# Altium footprint library DMC2400UV-7.PcbLib: 3 footprints
Each footprint in its own frame and in the unit in brackets; x right, y up, seen from the top. Pads: shape width x height; smd on the part's side, far side on the other; paste and mask are expansions set on the pad; w line width, h text height; cw(c..) or ccw(c..) is an arc to the next point about the centre after c.
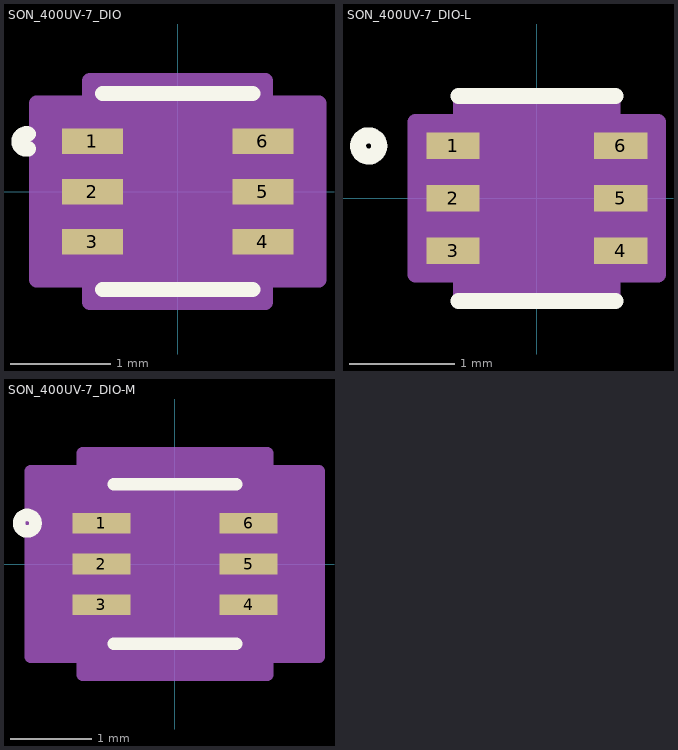
[diagram p0: the footprints below, top view; thin cyan lines are the x and y axes]

## SON_400UV-7_DIO [mil]
pads (6):
  rect 24x10 smd paste+0 mask+0: 1(-33.5,19.68) 2(-33.5,0) 3(-33.5,-19.68) 4(33.5,-19.68) 5(33.5,0) 6(33.5,19.68)
Top Overlay:
  lines w6: -58.6,16.78 cw(c-59.34,19.68) -58.6,22.59 ; -29.5,-38.5 29.5,-38.5 ; -29.5,38.5 29.5,38.5
  text ".Designator" at -137.5,-25 h50
Mechanical 13:
  lines w1: -12,33.5 ccw(c0,33.5) 12,33.5 ; -24.5,-33.5 -24.5,33.5 24.5,33.5 24.5,-33.5 -24.5,-33.5
Mechanical 15:
  region: -34.5,-34.69 -55.5,-34.69 -55.5,34.69 -34.5,34.69 -34.5,43.5 34.5,43.5 34.5,34.69 55.5,34.69 55.5,-34.69 34.5,-34.69 34.5,-43.5 -34.5,-43.5
  lines w6: -55.5,-34.69 -34.5,-34.69 -34.5,-43.5 34.5,-43.5 34.5,-34.69 55.5,-34.69 55.5,34.69 34.5,34.69 34.5,43.5 -34.5,43.5 -34.5,34.69 -55.5,34.69 -55.5,-34.69
3D body "SON_400UV-7_DIO.step": height 24.09, standoff 0, extent -33.5,-33.5 33.5,33.5

## SON_400UV-7_DIO-L [mil]
pads (6):
  rect 20x10 smd paste+0 mask+0: 1(-31.5,19.68) 2(-31.5,0) 3(-31.5,-19.68) 4(31.5,-19.68) 5(31.5,0) 6(31.5,19.68)
Top Overlay:
  circle w6: c-63.19,19.68 r4
  lines w6: -29.5,-38.5 29.5,-38.5 ; -29.5,38.5 29.5,38.5
  text ".Designator" at -137.5,-25 h50
Mechanical 13:
  circle w1: c-21.5,19.68 r3
  lines w1: -12,33.5 ccw(c0,33.5) 12,33.5 ; -24.5,-33.5 24.5,-33.5 24.5,33.5 -24.5,33.5 -24.5,-33.5
  text ".Designator" at -137.5,-25 h50
Mechanical 15:
  region: -28.5,-28.68 -45.5,-28.68 -45.5,28.68 -28.5,28.68 -28.5,37.5 28.5,37.5 28.5,28.68 45.5,28.68 45.5,-28.68 28.5,-28.68 28.5,-37.5 -28.5,-37.5
  lines w6: -45.5,-28.68 -45.5,28.68 -28.5,28.68 -28.5,37.5 28.5,37.5 28.5,28.68 45.5,28.68 45.5,-28.68 28.5,-28.68 28.5,-37.5 -28.5,-37.5 -28.5,-28.68 -45.5,-28.68
3D body "SON_400UV-7_DIO.step": height 24.09, standoff 0, extent -33.5,-33.5 33.5,33.5

## SON_400UV-7_DIO-M [mil]
pads (6):
  rect 28x10 smd paste+0 mask+0: 1(-35.5,19.68) 2(-35.5,0) 3(-35.5,-19.68) 4(35.5,-19.68) 5(35.5,0) 6(35.5,19.68)
Top Overlay:
  circle w6: c-71.19,19.68 r4
  lines w6: -29.5,-38.5 29.5,-38.5 ; -29.5,38.5 29.5,38.5
  text ".Designator" at -137.5,-25 h50
Mechanical 13:
  circle w1: c-21.5,19.68 r3
  lines w1: -12,33.5 ccw(c0,33.5) 12,33.5 ; -24.5,-33.5 24.5,-33.5 24.5,33.5 -24.5,33.5 -24.5,-33.5
  text ".Designator" at -137.5,-25 h50
Mechanical 15:
  region: -44.5,-44.69 -69.5,-44.69 -69.5,44.69 -44.5,44.69 -44.5,53.5 44.5,53.5 44.5,44.69 69.5,44.69 69.5,-44.69 44.5,-44.69 44.5,-53.5 -44.5,-53.5
  lines w6: -69.5,-44.69 -69.5,44.69 -44.5,44.69 -44.5,53.5 44.5,53.5 44.5,44.69 69.5,44.69 69.5,-44.69 44.5,-44.69 44.5,-53.5 -44.5,-53.5 -44.5,-44.69 -69.5,-44.69
3D body "SON_400UV-7_DIO.step": height 24.09, standoff 0, extent -33.5,-33.5 33.5,33.5